# EAGLE library part 35318-2020 (library MCE_Conectores)
Mini FIT connector 20 pol ATX PC-Motherboard Power connector Source: http://www.molex.com
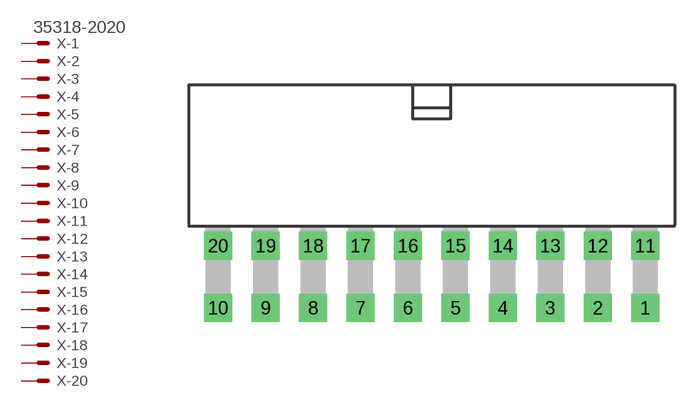
[diagram p11: symbol with the pads of 35318-2020; footprint 35318-2020]

Designator prefix X; gates -1=MV-1 -2=M-1 -3=M-1 -4=M-1 -5=M-1 -6=M-1 -7=M-1 -8=M-1 -9=M-1 -10=M-1 -11=M-1 -12=M-1 -13=M-1 -14=M-1 -15=M-1 -16=M-1 -17=M-1 -18=M-1 -19=M-1 -20=M-1

## 35318-2020 (OC_FARNELL: unknown; OC_NEWARK: unknown)  [35318-2020]
1  -1:S  pas
2  -2:S  pas
3  -3:S  pas
4  -4:S  pas
5  -5:S  pas
6  -6:S  pas
7  -7:S  pas
8  -8:S  pas
9  -9:S  pas
10  -10:S  pas
11  -11:S  pas
12  -12:S  pas
13  -13:S  pas
14  -14:S  pas
15  -15:S  pas
16  -16:S  pas
17  -17:S  pas
18  -18:S  pas
19  -19:S  pas
20  -20:S  pas

## Footprint 35318-2020 (pad centres in mm)
Mini FIT connector 20 pol ATX PC-Motherboard Power connector Source: https://www.molex.com/pdm_docs/sd/353182020_sd.pdf
drill 1.4 pad 2.5 square: 1 18.9,-2.75; 2 14.7,-2.75; 3 10.5,-2.75; 4 6.3,-2.75; 5 2.1,-2.75; 6 -2.1,-2.75; 7 -6.3,-2.75; 8 -10.5,-2.75; 9 -14.7,-2.75; 10 -18.9,-2.75; 11 18.9,2.75; 12 14.7,2.75; 13 10.5,2.75; 14 6.3,2.75; 15 2.1,2.75; 16 -2.1,2.75; 17 -6.3,2.75; 18 -10.5,2.75; 19 -14.7,2.75; 20 -18.9,2.75